# Altium schematic symbol library 接口.SchLib: 8 symbols
Pins are listed as number, name and electrical type; pins without a type are passive.

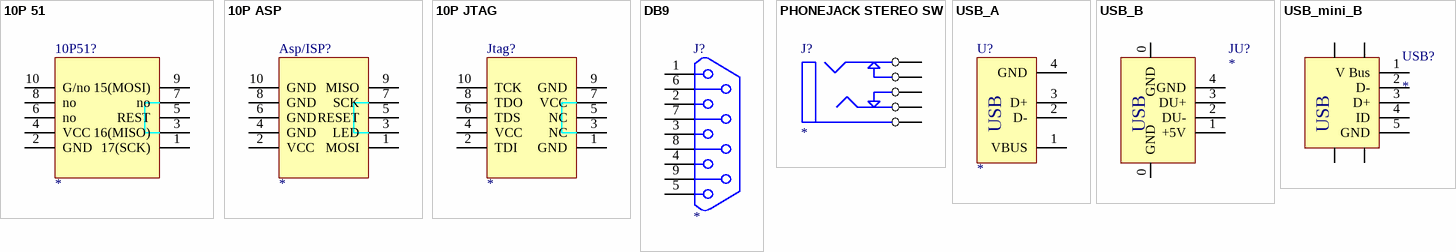
[diagram p0: symbols 10P 51 to USB_mini_B]

## 10P 51
designator 10P51?
footprint 10DIP
footprint 10TDIP
pins: 1 17(SCK), 2 GND, 3 16(MISO), 4 VCC, 5 REST, 6 no, 7 no, 8 no, 9 15(MOSI), 10 G/no

## 10P ASP
designator Asp/ISP?
footprint 10DIP
footprint 10TDIP
pins: 1 MOSI, 2 VCC, 3 LED, 4 GND, 5 RESET, 6 GND, 7 SCK, 8 GND, 9 MISO, 10 GND

## 10P JTAG
designator Jtag?
footprint 10DIP
footprint 10TDIP
pins: 1 GND, 2 TDI, 3 NC, 4 VCC, 5 NC, 6 TDS, 7 VCC, 8 TDO, 9 GND, 10 TCK

## DB9
designator J?
footprint DB9FL
pins: 1, 2, 3, 4, 5, 6, 7, 8, 9

## PHONEJACK STEREO SW
designator J?
footprint SOUND1
footprint SOUND1_B (14mm¡Á11mm)
pins: 1 A, 2 B, 3 C, 4 D, 5 E

## USB_A
designator U?
footprint USB2
pins: 1 VBUS, 2 D-, 3 D+, 4 GND
text: USB

## USB_B
designator JU?
footprint USB1
pins: 0 GND, 0 GND, 1 +5V, 2 DU-, 3 DU+, 4 GND
text: USB

## USB_mini_B
designator USB?
footprint USB_mini_B (mini USB ĸͷ)
pins: 0, 0, 0, 0, 1 V Bus, 2 D-, 3 D+, 4 ID, 5 GND
text: USB